# Altium schematic symbol library 10ohm1Turn_pot.SchLib: 1 symbol
Pins are listed as number, name and electrical type; pins without a type are passive.

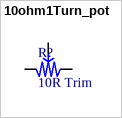
[diagram p0: symbol 10ohm1Turn_pot]

## 10ohm1Turn_pot
designator R?, comment 10R Trim
TRIMMER 10 OHM 0.25W SMD; Supplier: Digikey; Supplier Part Number: 3314G-1-100ECT-ND
footprint 10ohm1Turn_pot
pins: 1, 2, 3